# EAGLE library part MP2560 (library my_ic)
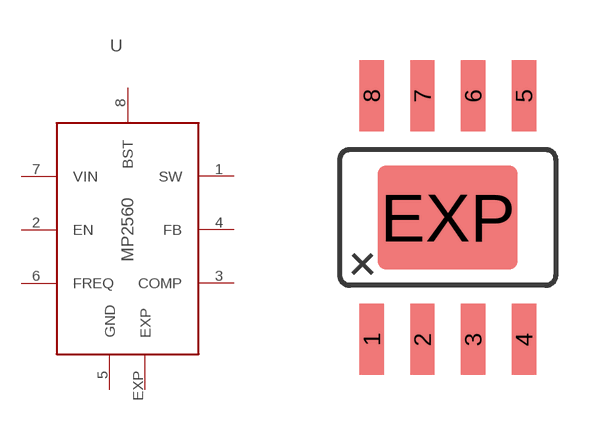
[diagram p24: symbol with the pads of SOIC-8E; footprint SOIC-8E]

Designator prefix -

## MP2560  [SOIC-8E]
1  SW
2  EN
3  COMP
4  FB
5  GND
6  FREQ
7  VIN
8  BST
EXP  EXP

## Footprint SOIC-8E (pad centres in mm)
smd 0.61 x 1.778: 1 -1.905,-3.048; 2 -0.635,-3.048; 3 0.635,-3.048; 4 1.905,-3.048; 5 1.905,3.048; 6 0.635,3.048; 7 -0.635,3.048; 8 -1.905,3.048
smd 3.505 x 2.616: EXP 0,0